# EAGLE library part PIC24FJ32GB004 (library libami)
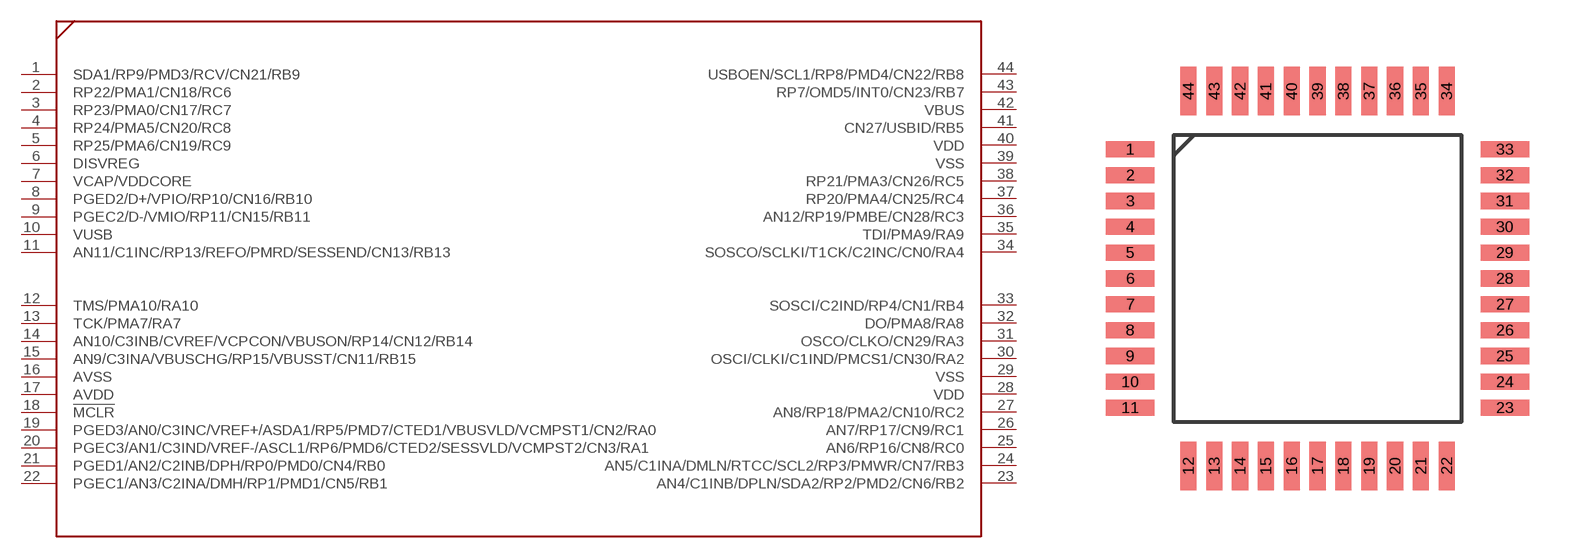
[diagram p8: symbol with the pads of TQFP44; footprint TQFP44]

Designator prefix -

## PIC24FJ32GB004  [TQFP44]
1  SDA1/RP9/PMD3/RCV/CN21/RB9
2  RP22/PMA1/CN18/RC6
3  RP23/PMA0/CN17/RC7
4  RP24/PMA5/CN20/RC8
5  RP25/PMA6/CN19/RC9
6  DISVREG
7  VCAP/VDDCORE
8  PGED2/D+/VPIO/RP10/CN16/RB10
9  PGEC2/D-/VMIO/RP11/CN15/RB11
10  VUSB
11  AN11/C1INC/RP13/REFO/PMRD/SESSEND/CN13/RB13
12  TMS/PMA10/RA10
13  TCK/PMA7/RA7
14  AN10/C3INB/CVREF/VCPCON/VBUSON/RP14/CN12/RB14
15  AN9/C3INA/VBUSCHG/RP15/VBUSST/CN11/RB15
16  AVSS
17  AVDD
18  !MCLR!
19  PGED3/AN0/C3INC/VREF+/ASDA1/RP5/PMD7/CTED1/VBUSVLD/VCMPST1/CN2/RA0
20  PGEC3/AN1/C3IND/VREF-/ASCL1/RP6/PMD6/CTED2/SESSVLD/VCMPST2/CN3/RA1
21  PGED1/AN2/C2INB/DPH/RP0/PMD0/CN4/RB0
22  PGEC1/AN3/C2INA/DMH/RP1/PMD1/CN5/RB1
23  AN4/C1INB/DPLN/SDA2/RP2/PMD2/CN6/RB2
24  AN5/C1INA/DMLN/RTCC/SCL2/RP3/PMWR/CN7/RB3
25  AN6/RP16/CN8/RC0
26  AN7/RP17/CN9/RC1
27  AN8/RP18/PMA2/CN10/RC2
28  VDD
29  VSS
30  OSCI/CLKI/C1IND/PMCS1/CN30/RA2
31  OSCO/CLKO/CN29/RA3
32  DO/PMA8/RA8
33  SOSCI/C2IND/RP4/CN1/RB4
34  SOSCO/SCLKI/T1CK/C2INC/CN0/RA4
35  TDI/PMA9/RA9
36  AN12/RP19/PMBE/CN28/RC3
37  RP20/PMA4/CN25/RC4
38  RP21/PMA3/CN26/RC5
39  VSS
40  VDD
41  CN27/USBID/RB5
42  VBUS
43  RP7/OMD5/INT0/CN23/RB7
44  USBOEN/SCL1/RP8/PMD4/CN22/RB8

## Footprint TQFP44 (pad centres in mm)
Thin Quad Flat Pack package type TQ
smd 1.5 x 0.5: 1 -5.8,4; 2 -5.8,3.2; 3 -5.8,2.4; 4 -5.8,1.6; 5 -5.8,0.8; 6 -5.8,0; 7 -5.8,-0.8; 8 -5.8,-1.6; 9 -5.8,-2.4; 10 -5.8,-3.2; 11 -5.8,-4; 23 5.8,-4; 24 5.8,-3.2; 25 5.8,-2.4; 26 5.8,-1.6; 27 5.8,-0.8; 28 5.8,0; 29 5.8,0.8; 30 5.8,1.6; 31 5.8,2.4; 32 5.8,3.2; 33 5.8,4
smd 0.5 x 1.5: 12 -4,-5.8; 13 -3.2,-5.8; 14 -2.4,-5.8; 15 -1.6,-5.8; 16 -0.8,-5.8; 17 0,-5.8; 18 0.8,-5.8; 19 1.6,-5.8; 20 2.4,-5.8; 21 3.2,-5.8; 22 4,-5.8; 34 4,5.8; 35 3.2,5.8; 36 2.4,5.8; 37 1.6,5.8; 38 0.8,5.8; 39 0,5.8; 40 -0.8,5.8; 41 -1.6,5.8; 42 -2.4,5.8; 43 -3.2,5.8; 44 -4,5.8